# EAGLE library part AD9850 (library CasaLibrary)
CMOS, 125 MHz Complete DDS Synthesizer
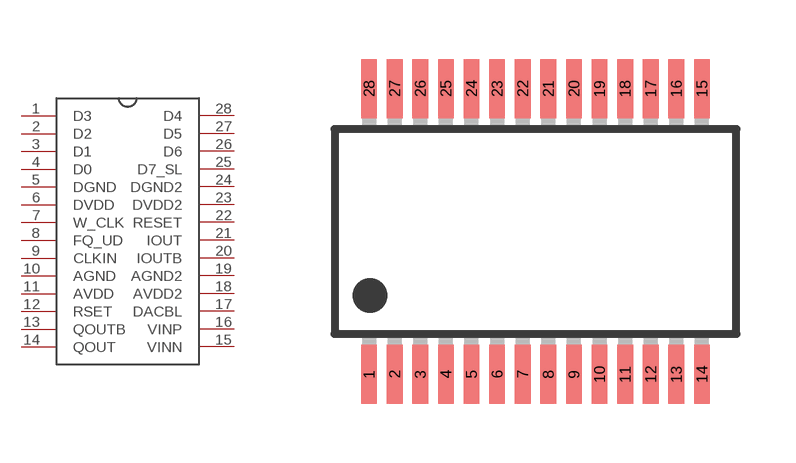
[diagram p9: symbol with the pads of SSOP28; footprint SSOP28]

Designator prefix -

## AD9850  [SSOP28]
1  D3  in
2  D2  in
3  D1  in
4  D0
5  DGND  sup
6  DVDD  sup
7  W_CLK
8  FQ_UD
9  CLKIN  in
10  AGND  sup
11  AVDD  sup
12  RSET  in
13  QOUTB  out
14  QOUT  out
15  VINN  in
16  VINP  in
17  DACBL  nc
18  AVDD2  sup
19  AGND2  sup
20  IOUTB  out
21  IOUT  out
22  RESET  in
23  DVDD2  sup
24  DGND2  sup
25  D7_SL  in
26  D6  in
27  D5  in
28  D4  in

## Footprint SSOP28 (pad centres in mm)
smd 0.4 x 1.5: 1 -4.225,-3.625; 2 -3.575,-3.625; 3 -2.925,-3.625; 4 -2.275,-3.625; 5 -1.625,-3.625; 6 -0.975,-3.625; 7 -0.325,-3.625; 8 0.325,-3.625; 9 0.975,-3.625; 10 1.625,-3.625; 11 2.275,-3.625; 12 2.925,-3.625; 13 3.575,-3.625; 14 4.225,-3.625; 15 4.225,3.625; 16 3.575,3.625; 17 2.925,3.625; 18 2.275,3.625; 19 1.625,3.625; 20 0.975,3.625; 21 0.325,3.625; 22 -0.325,3.625; 23 -0.975,3.625; 24 -1.625,3.625; 25 -2.275,3.625; 26 -2.925,3.625; 27 -3.575,3.625; 28 -4.225,3.625